# Altium schematic symbol library 0022232021.SchLib: 1 symbol
Pins are listed as number, name and electrical type; pins without a type are passive.

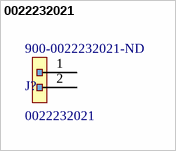
[diagram p0: symbol 0022232021]

## 0022232021
designator J?  Supplier Part Number 1: 900-0022232021-ND
CONN HEADER VERT 2POS 2.54MM; MFR: Molex; Positions: 2; Rows: 1; Voltage Rating: 500V; Current Rating: 4A; Pin Count: 2; PN: 0022232021; ComponentLink1Description: Datasheet; ComponentLink1URL: https://katalog.we-online.de/em/datasheet/6130xx11121.pdf; Supplier 1: Digi-Key
footprint 0022232021
pins: 1, 2